# Altium footprint library ConnectorsLib.PcbLib: 142 footprints (part 5 of 9)
Each footprint in its own frame and in the unit in brackets; x right, y up, seen from the top. Pads: shape width x height; smd on the part's side, far side on the other; paste and mask are expansions set on the pad; w line width, h text height; cw(c..) or ccw(c..) is an arc to the next point about the centre after c.
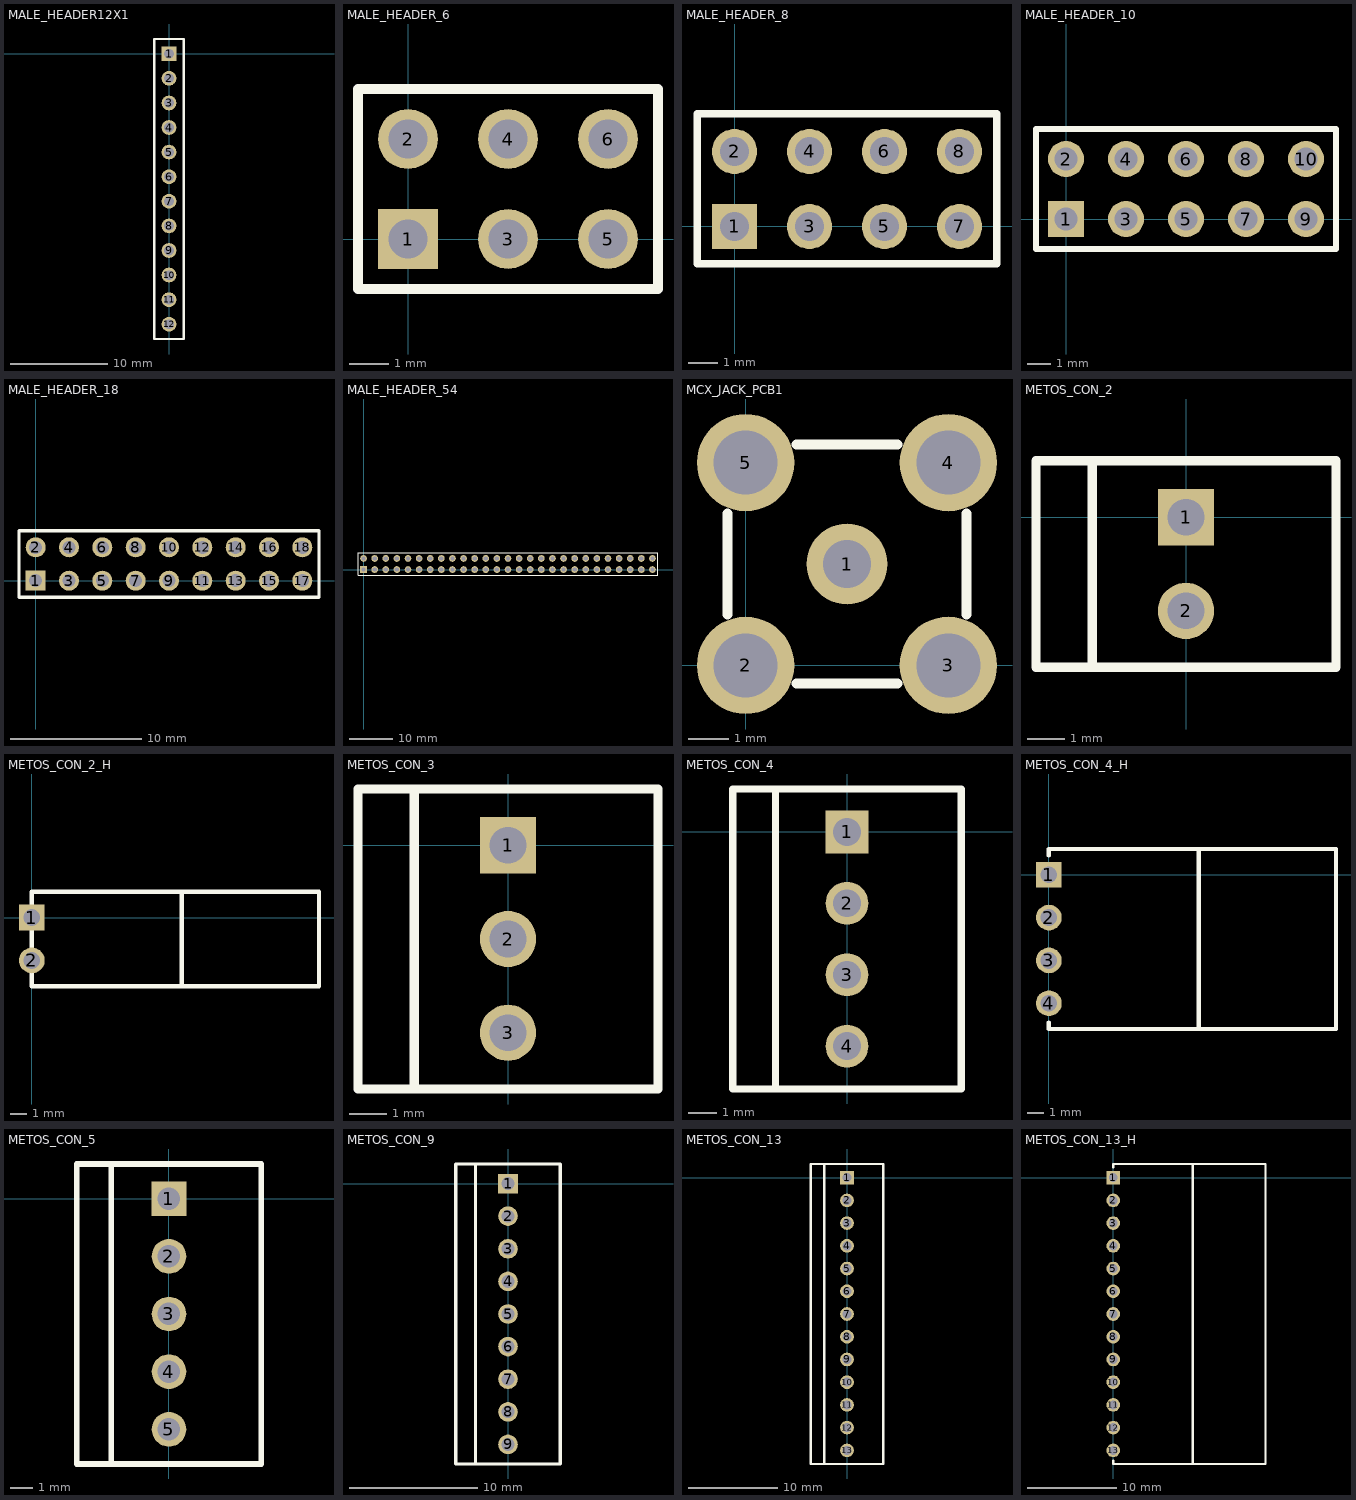
[diagram p4: the footprints below, top view; thin cyan lines are the x and y axes]

## MALE_HEADER12X1 [mil]
pads (12):
  rect 60x60 hole 39: 1(0,0)
  round 60 hole 39: 2(0,-100) 3(0,-200) 4(0,-300) 5(0,-400) 6(0,-500) 7(0,-600) 8(0,-700) 9(0,-800) 10(0,-900) 11(0,-1000) 12(0,-1100)
Top Overlay:
  lines w10: -60,-1160 -60,60 60,60 60,-1160 -60,-1160

## MALE_HEADER_6 [mil]
pads (6):
  rect 60x60 hole 39: 1(0,0)
  round 60 hole 39: 2(0,100) 3(100,0) 4(100,100) 5(200,0) 6(200,100)
Top Overlay:
  lines w10: -50,-50 -50,150 250,150 250,-50 -50,-50

## MALE_HEADER_8 [mil]
pads (8):
  rect 60x60 hole 39: 1(0,0)
  round 60 hole 39: 2(0,100) 3(100,0) 4(100,100) 5(200,0) 6(200,100) 7(300,0) 8(300,100)
Top Overlay:
  lines w10: -50,-50 -50,150 350,150 350,-50 -50,-50

## MALE_HEADER_10 [mil]
pads (10):
  rect 60x60 hole 39: 1(0,0)
  round 60 hole 39: 2(0,100) 3(100,0) 4(100,100) 5(200,0) 6(200,100) 7(300,0) 8(300,100) 9(400,0) 10(400,100)
Top Overlay:
  lines w10: -50,-50 -50,150 450,150 450,-50 -50,-50

## MALE_HEADER_18 [mil]
pads (18):
  rect 60x60 hole 39: 1(0,0)
  round 60 hole 39: 2(0,100) 3(100,0) 4(100,100) 5(200,0) 6(200,100) 7(300,0) 8(300,100) 9(400,0) 10(400,100) 11(500,0) 12(500,100) 13(600,0) 14(600,100) 15(700,0) 16(700,100) 17(800,0) 18(800,100)
Top Overlay:
  lines w10: -50,-50 850,-50 850,150 -50,150 -50,-50

## MALE_HEADER_54 [mil]
pads (54):
  rect 60x60 hole 39: 1(0,0)
  round 60 hole 39: 2(0,100) 3(100,0) 4(100,100) 5(200,0) 6(200,100) 7(300,0) 8(300,100) 9(400,0) 10(400,100) 11(500,0) 12(500,100) 13(600,0) 14(600,100) 15(700,0) 16(700,100) 17(800,0) 18(800,100) 19(900,0) 20(900,100) 21(1000,0) 22(1000,100) 23(1100,0) 24(1100,100) 25(1200,0) 26(1200,100) 27(1300,0) 28(1300,100) 29(1400,0) 30(1400,100) 31(1500,0) 32(1500,100) 33(1600,0) 34(1600,100) 35(1700,0) 36(1700,100) 37(1800,0) 38(1800,100) 39(1900,0) 40(1900,100) 41(2000,0) 42(2000,100) 43(2100,0) 44(2100,100) 45(2200,0) 46(2200,100) 47(2300,0) 48(2300,100) 49(2400,0) 50(2400,100) 51(2500,0) 52(2500,100) 53(2600,0) 54(2600,100)
Top Overlay:
  lines w10: -50,-50 2650,-50 2650,150 -50,150 -50,-50

## MCX_JACK_PCB1 [mil]
pads (5):
  round 80 hole 47: 1(100,100)
  round 96 hole 63: 2(0,0) 3(200,0) 4(200,200) 5(0,200)
Top Overlay:
  lines w10: -18,50 -18,150 ; 50,-18 150,-18 ; 50,218 150,218 ; 218,50 218,150

## METOS_CON_2 [mil]
pads (2):
  rect 60x60 hole 39: 1(0,0)
  round 60 hole 39: 2(0,-100)
Top Overlay:
  lines w10: -100,-160 -100,60 ; -160,-160 -160,60 160,60 160,-160 -160,-160
3D body: height 423.23, standoff -3.94, extent -13,-113 13,-87
3D body: height 423.23, standoff -3.94, extent -13,-13 13,13
3D body: height 375.98, standoff 0, extent -137,-143 -64,-57
3D body: height 375.98, standoff 0, extent -137,-43 -64,43
3D body: height 110.24, standoff 0, extent -137,-43 137,43
3D body: height 110.24, standoff 0, extent -137,-143 137,-57
3D body: height 110.24, standoff 0, extent -137,-143 -64,43

## METOS_CON_2_H [mil]
pads (2):
  rect 60x60 hole 39: 1(0,0)
  round 60 hole 39: 2(0,-100)
Top Overlay:
  lines w10: 350,-160 350,60 ; 0,-160 0,60 670,60 670,-160 0,-160

## METOS_CON_3 [mil]
pads (3):
  rect 60x60 hole 39: 1(0,0)
  round 60 hole 39: 2(0,-100) 3(0,-200)
Top Overlay:
  lines w10: -100,-260 -100,60 ; -160,-260 160,-260 160,60 -160,60 -160,-260
3D body: height 110.24, standoff 0, extent -137,-243 -64,43
3D body: height 375.98, standoff 0, extent -137,-243 -64,-157
3D body: height 375.98, standoff 0, extent -137,-143 -64,-57
3D body: height 375.98, standoff 0, extent -137,-43 -64,43
3D body: height 110.24, standoff 0, extent -137,-143 137,-57
3D body: height 110.24, standoff 0, extent -137,-43 137,43
3D body: height 110.24, standoff 0, extent -137,-243 137,-157
3D body: height 423.23, standoff -3.94, extent -13,-13 13,13
3D body: height 423.23, standoff -3.94, extent -13,-113 13,-87
3D body: height 423.23, standoff -3.94, extent -13,-213 13,-187

## METOS_CON_4 [mil]
pads (4):
  rect 60x60 hole 39: 1(0,0)
  round 60 hole 39: 2(0,-100) 3(0,-200) 4(0,-300)
Top Overlay:
  lines w10: -100,-360 -100,60 ; -160,-360 -160,60 160,60 160,-360 -160,-360
3D body: height 110.24, standoff 0, extent -137,-342 -64,43
3D body: height 423.23, standoff -3.94, extent -13,-13 13,13
3D body: height 375.98, standoff 0, extent -137,-43 -64,43
3D body: height 375.98, standoff 0, extent -137,-342 -64,-256
3D body: height 375.98, standoff 0, extent -137,-243 -64,-157
3D body: height 375.98, standoff 0, extent -137,-143 -64,-57
3D body: height 110.24, standoff 0, extent -137,-43 137,43
3D body: height 110.24, standoff 0, extent -137,-143 137,-57
3D body: height 110.24, standoff 0, extent -137,-243 137,-157
3D body: height 110.24, standoff 0, extent -137,-342 137,-256
3D body: height 423.23, standoff -3.94, extent -13,-113 13,-87
3D body: height 423.23, standoff -3.94, extent -13,-213 13,-187
3D body: height 423.23, standoff -3.94, extent -13,-313 13,-287

## METOS_CON_4_H [mil]
pads (4):
  rect 60x60 hole 39: 1(0,0)
  round 60 hole 39: 2(0,-100) 3(0,-200) 4(0,-300)
Top Overlay:
  lines w10: 0,-345 0,-360 670,-360 670,60 0,60 0,45 ; 350,-360 350,60

## METOS_CON_5 [mil]
pads (5):
  rect 60x60 hole 39: 1(0,0)
  round 60 hole 39: 2(0,-100) 3(0,-200) 4(0,-300) 5(0,-400)
Top Overlay:
  lines w10: -100,-460 -100,60 ; -160,-460 160,-460 160,60 -160,60 -160,-460
3D body: height 375.98, standoff 0, extent -137,-443 -64,-357
3D body: height 110.24, standoff 0, extent -137,-443 -64,43
3D body: height 423.23, standoff -3.94, extent -13,-13 13,13
3D body: height 375.98, standoff 0, extent -137,-43 -64,43
3D body: height 375.98, standoff 0, extent -137,-343 -64,-257
3D body: height 375.98, standoff 0, extent -137,-243 -64,-157
3D body: height 375.98, standoff 0, extent -137,-143 -64,-57
3D body: height 110.24, standoff 0, extent -137,-43 137,43
3D body: height 110.24, standoff 0, extent -137,-143 137,-57
3D body: height 110.24, standoff 0, extent -137,-243 137,-157
3D body: height 110.24, standoff 0, extent -137,-343 137,-257
3D body: height 423.23, standoff -3.94, extent -13,-113 13,-87
3D body: height 423.23, standoff -3.94, extent -13,-213 13,-187
3D body: height 423.23, standoff -3.94, extent -13,-313 13,-287
3D body: height 110.24, standoff 0, extent -137,-443 137,-357
3D body: height 423.23, standoff -3.94, extent -13,-413 13,-387

## METOS_CON_9 [mil]
pads (9):
  rect 60x60 hole 39: 1(0,0)
  round 60 hole 39: 2(0,-100) 3(0,-200) 4(0,-300) 5(0,-400) 6(0,-500) 7(0,-600) 8(0,-700) 9(0,-800)
Top Overlay:
  lines w10: -100,-860 -100,60 ; -160,-860 160,-860 160,60 -160,60 -160,-860
3D body: height 423.23, standoff -3.94, extent -13,-413 13,-387
3D body: height 110.24, standoff 0, extent -137,-443 137,-357
3D body: height 423.23, standoff -3.94, extent -13,-313 13,-287
3D body: height 423.23, standoff -3.94, extent -13,-213 13,-187
3D body: height 423.23, standoff -3.94, extent -13,-113 13,-87
3D body: height 110.24, standoff 0, extent -137,-343 137,-257
3D body: height 110.24, standoff 0, extent -137,-243 137,-157
3D body: height 110.24, standoff 0, extent -137,-143 137,-57
3D body: height 110.24, standoff 0, extent -137,-43 137,43
3D body: height 375.98, standoff 0, extent -137,-143 -64,-57
3D body: height 375.98, standoff 0, extent -137,-243 -64,-157
3D body: height 375.98, standoff 0, extent -137,-343 -64,-257
3D body: height 375.98, standoff 0, extent -137,-43 -64,43
3D body: height 423.23, standoff -3.94, extent -13,-13 13,13
3D body: height 110.24, standoff 0, extent -137,-843 -64,43
3D body: height 375.98, standoff 0, extent -137,-443 -64,-357
3D body: height 375.98, standoff 0, extent -137,-843 -64,-757
3D body: height 375.98, standoff 0, extent -137,-743 -64,-657
3D body: height 375.98, standoff 0, extent -137,-643 -64,-557
3D body: height 375.98, standoff 0, extent -137,-543 -64,-457
3D body: height 110.24, standoff 0, extent -137,-543 137,-457
3D body: height 110.24, standoff 0, extent -137,-643 137,-557
3D body: height 110.24, standoff 0, extent -137,-743 137,-657
3D body: height 423.23, standoff -3.94, extent -13,-513 13,-487
3D body: height 423.23, standoff -3.94, extent -13,-613 13,-587
3D body: height 423.23, standoff -3.94, extent -13,-713 13,-687
3D body: height 110.24, standoff 0, extent -137,-843 137,-757
3D body: height 423.23, standoff -3.94, extent -13,-813 13,-787

## METOS_CON_13 [mil]
pads (13):
  rect 60x60 hole 39: 1(0,0)
  round 60 hole 39: 2(0,-100) 3(0,-200) 4(0,-300) 5(0,-400) 6(0,-500) 7(0,-600) 8(0,-700) 9(0,-800) 10(0,-900) 11(0,-1000) 12(0,-1100) 13(0,-1200)
Top Overlay:
  lines w10: -100,-1260 -100,60 ; -160,-1260 160,-1260 160,60 -160,60 -160,-1260

## METOS_CON_13_H [mil]
pads (13):
  rect 60x60 hole 39: 1(0,0)
  round 60 hole 39: 2(0,-100) 3(0,-200) 4(0,-300) 5(0,-400) 6(0,-500) 7(0,-600) 8(0,-700) 9(0,-800) 10(0,-900) 11(0,-1000) 12(0,-1100) 13(0,-1200)
Top Overlay:
  lines w10: 0,-1245 0,-1260 670,-1260 670,60 0,60 0,45 ; 350,-1260 350,60